# Altium integrated library Analog Devices Clock Generation and Distribution.IntLib: 120 symbols (part 15 of 18)
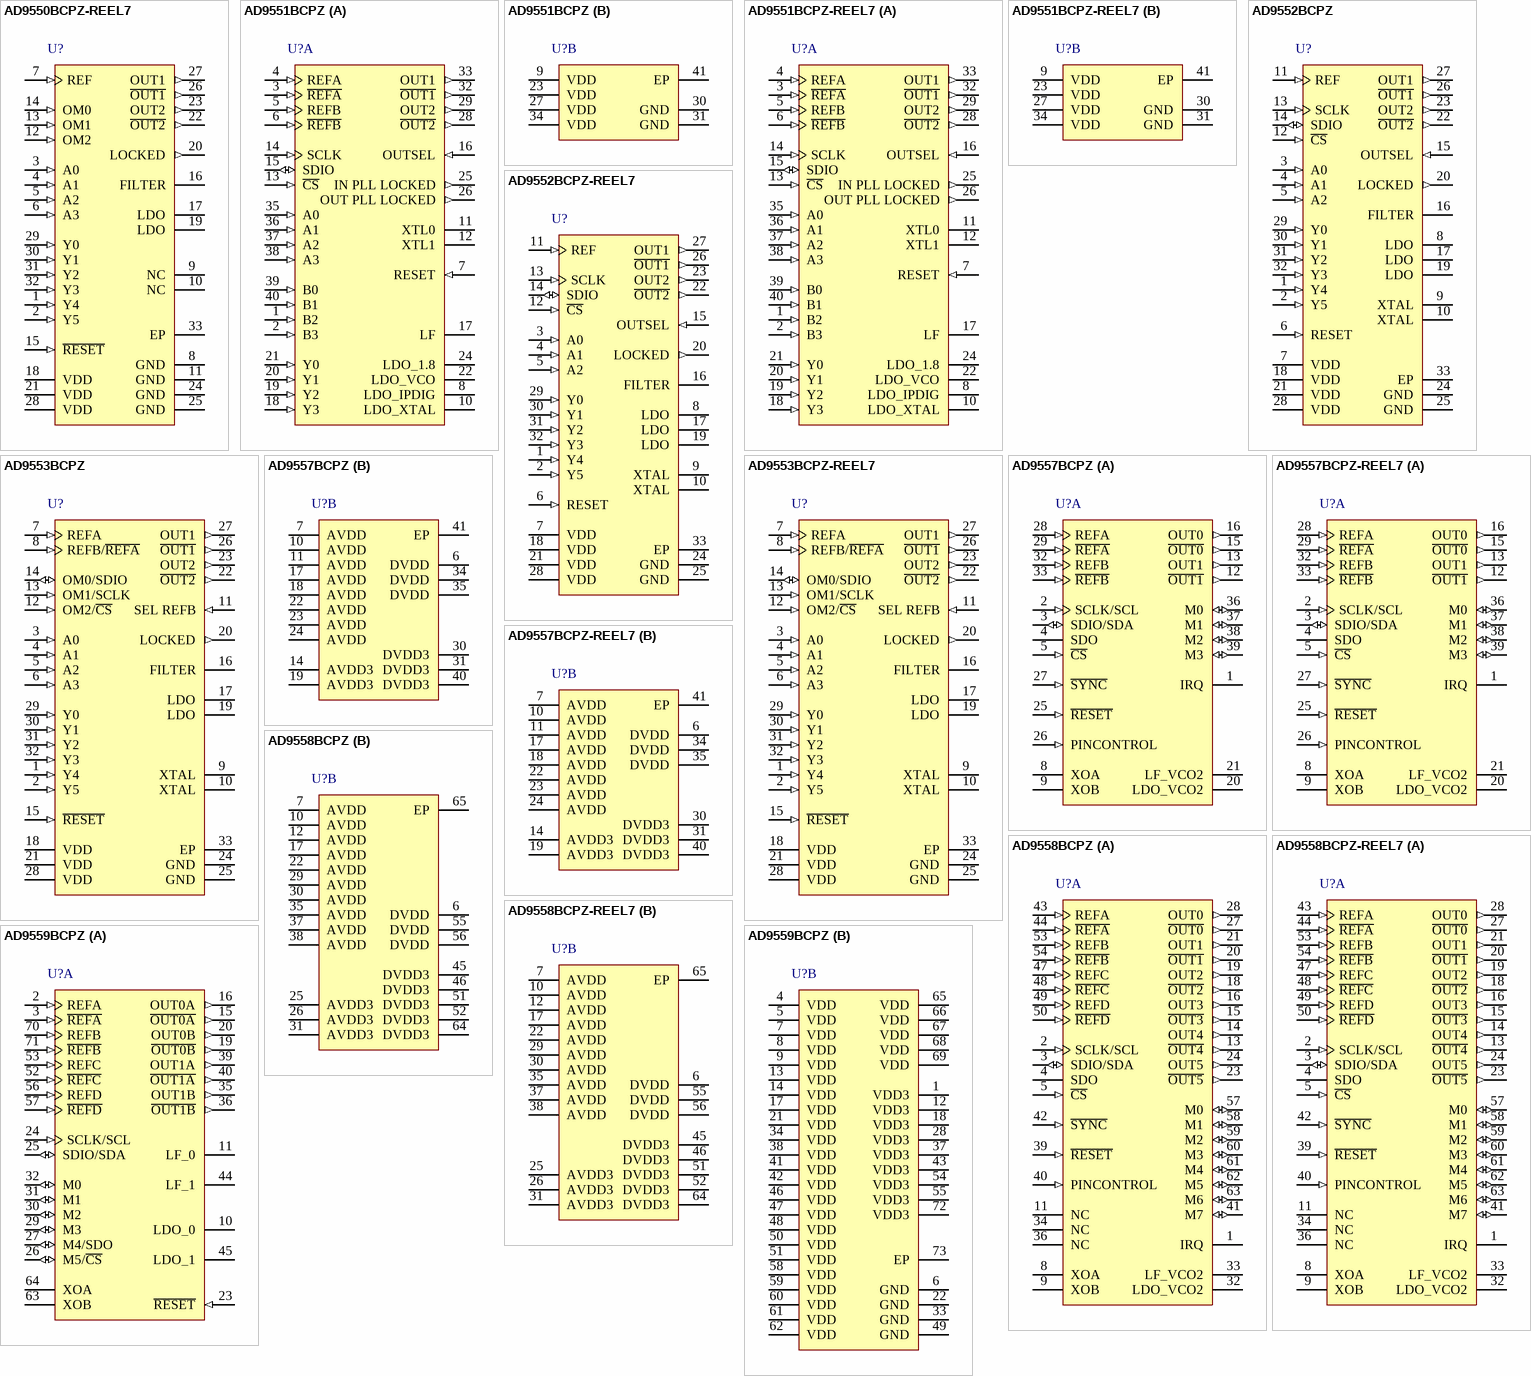
[diagram p26: symbols AD9550BCPZ-REEL7 to AD9559BCPZ]

## AD9558BCPZ
designator U?
Quad-Input Multiservice Line Card Adaptive Clock Translator, 3.3 V Supply, Industrial, 64-pin QFN (CP-64-5), Tray; Manufacturer: Analog Devices; PartNumber: AD9558BCPZ; # of Inputs: 4; # of Outputs: 12; Supply Voltage (V): 3.3; I/O Interface: Serial; Max f-out: 1.25 GHz; Output Logic: CMOS, LVDS, HSTL; DatasheetVersion: Rev. A; PackageVersion: 073108-A, 07/2008; PackageReference: CP-64-5; PackageDescription: 64-Pin Lead Frame Chip Scale Package, Body 9 x 9 mm, Pitch 0.5 mm; Supplier 1: Digi-Key; Supplier Part Number 1: AD9558BCPZ-ND; Supplier 2: Farnell; Supplier Part Number 2: 2065949; Supplier 3: Newark; Supplier Part Number 3: 55T8961; Supplier 4: Mouser; Supplier Part Number 4: 584-AD9558BCPZ; Packing: Tray; Mounting Technology: Surface Mount; Code_JEDEC: MO-220-VMMD-4; ComponentLink1Description: Manufacturer URL; ComponentLink1URL: http://www.analog.com/en/index.html; ComponentLink2Description: Datasheet; ComponentLink2URL: http://www.analog.com/static/imported-files/data_sheets/AD9558.pdf; ComponentLink3Description: Package Specification; ComponentLink3URL: http://www.analog.com/static/imported-files/packages/PKG_PDF/LFCSP%28CP%29/CP_64_5.pdf; ComponentLink4Description: Product URL; ComponentLink4URL: http://www.analog.com/en/clock-and-timing/clock-generation-and-distribution/ad9558/products/product.html
footprint ADI-CP-64-5_N (QFN, 64-Leads, Body 9x9mm, Pitch 0.5mm, Thermal Pad 5.1x5.1mm, IPC Medium Density)
footprint ADI-CP-64-5_L (QFN, 64-Leads, Body 9x9mm, Pitch 0.5mm, Thermal Pad 5.1x5.1mm, IPC High Density)
footprint ADI-CP-64-5_M (QFN, 64-Leads, Body 9x9mm, Pitch 0.5mm, Thermal Pad 5.1x5.1mm, IPC Low Density)
part A pins: 1 IRQ (hiz) "Interrupt Request Line.", 2 SCLK/SCL (in) "Serial Programming Clock (SCLK) in SPI Mode. Data clock for serial programming. Open-Collector Serial Clock Pin (SCL) in I2C Mode. Requires a pull-up resistor, usually 2.2 k ohm; the resistor size depends on the number of (See Datasheet)", 3 SDIO/SDA (io) "Serial Data Input/Output (SDIO) in SPI Mode. When the device is in 4-wire SPI mode, data is written via this pin. In 3-wire SPI mode, both data reads and writes occur on this pin. There is no internal pull-up/pull-down (See Datasheet)", 4 SDO (hiz) "Serial Data Output. Use this pin to read data in 4-wire mode. There is no internal pull-up/ pull-down resistor on this pin. This pin is high impedance in the default 3-wire mode.", 5 ~{CS} (in) "Chip Select (SPI), Active Low. When programming a device, this pin must be held low. In systems where more than one AD9558 is present, this pin enables individual programming of each AD9558. This pin has an internal 10 k ohm (See Datasheet)", 8 XOA "System Clock Input. XOA contains internal dc biasing and should be ac-coupled with a 0.01 uF capacitor, except when using a crystal. If a crystal is used, connect the crystal across XOA and XOB. Single-ended 1.8 V CMOS is (See Datasheet)", 9 XOB "Complementary System Clock Input. Complementary signal to XOA. XOB contains internal dc biasing and should be ac-coupled with a 0.01 uF capacitor, except when using a crystal. If a crystal is used, connect the crystal across (See Datasheet)", 11 NC "No Connection. Do not connect to this pin.", 13 ~{OUT4} (out) "Complementary Output 4. This output can be configured as HSTL, LVDS, or single-ended 1.8 V CMOS", 14 OUT4 (out) "Output 4. This output can be configured as HSTL, LVDS, or single-ended 1.8 V CMOS. LVPECL levels can be achieved by ac coupling and using the Thevenin-equivalent termination as described in the Input/Output Termination (See Datasheet)", 15 ~{OUT3} (out) "Complementary Output 3. This output can be configured as HSTL, LVDS, or single-ended 1.8 V CMOS", 16 OUT3 (out) "Output 3. This output can be configured as HSTL, LVDS, or single-ended 1.8 V CMOS. LVPECL levels can be achieved by ac coupling and using the Thevenin-equivalent termination as described in the Input/Output Termination (See Datasheet)", 18 ~{OUT2} (out) "Complementary Output 2. This output can be configured as HSTL, LVDS, or single-ended 1.8 V CMOS.", 19 OUT2 (out) "Output 2. This output can be HSTL, LVDS, or single-ended 1.8 V CMOS. LVPECL levels can be achieved by ac coupling and using the Thevenin-equivalent termination as described in the Input/Output Termination Recommendations (See Datasheet)", 20 ~{OUT1} (out) "Complementary Output 1. This output can be configured as HSTL, LVDS, or single-ended 1.8 V CMOS.", 21 OUT1 (out) "Output 1. This output can be configured as HSTL, LVDS, or single-ended 1.8 V CMOS. LVPECL levels can be achieved by ac coupling and using the Thevenin-equivalent termination as described in the Input/Output Termination (See Datasheet)", 23 ~{OUT5} (out) "Complementary Output 5. This output can be configured as HSTL, LVDS, or single-ended 1.8 V or 3.3 V CMOS", 24 OUT5 (out) "Output 5. This output can be configured as HSTL, LVDS, or single-ended 1.8 V or 3.3 V CMOS. LVPECL levels can be achieved by ac coupling and by using the Thevenin-equivalent termination as described in the Input/Output (See Datasheet)", 27 ~{OUT0} (out) "Complementary Output 0. This output can be configured as HSTL, LVDS, or single-ended 1.8 V or 3.3 V CMOS.", 28 OUT0 (out) "Output 0. This output can be configured as HSTL, LVDS, or single-ended 1.8 V or 3.3 V CMOS. LVPECL levels can be achieved by ac coupling and by using the Thevenin-equivalent termination as described in the Input/Output (See Datasheet)", 32 LDO_VCO2 "Output PLL Loop Filter Voltage Regulator. Connect a 0.47 uF capacitor from this pin to ground. This pin is also the ac ground reference for the integrated output PLL external loop filter", 33 LF_VCO2 "Loop Filter Node for the Output PLL. Connect an external 6.8 nF capacitor from this pin to Pin 32 (LDO_VCO2).", 34 NC "No Connect. There is no internal connection for this pin.", 36 NC "No Connect. There is no internal connection for this pin.", 39 ~{RESET} (in) "Chip Reset. When this active low pin is asserted, the chip goes into reset. This pin has an internal 50 k ohm pull-up resistor.", 40 PINCONTROL (in) "Pin Program Mode Enable Pin. When pulled high during startup, this pin enables pin programming of the AD9558 configuration during startup. If this pin is low during startup, the user must program the part via the serial (See Datasheet)", 41 M7 (io) "Configurable I/O Pin. Along with pins M6 through M0, this pin is configured through the AD9558 register space", 42 ~{SYNC} (in) "Clock Distribution Synchronization Pin. When this pin is activated, output drivers are held static and then synchronized on a low-to-high transition of this pin. This pin is used to arm the frame sync function when frame (See Datasheet)", 43 REFA (in) "Reference A Input. This internally biased input is typically ac-coupled and, when configured as such, can accept any differential signal with single-ended swing up to 3.3 V. If dc-coupled, input can be LVPECL, LVDS, or (See Datasheet)", 44 ~{REFA} (in) "Complementary Reference A Input. This pin is the complementary input to Pin 43.", 47 REFC (in) "Reference C Input. This internally biased input is typically ac-coupled and, when configured as such, can accept any differential signal with single-ended swing up to 3.3 V. If dc-coupled, input can be LVPECL, LVDS, or (See Datasheet)", 48 ~{REFC} (in) "Complementary Reference C Input. This pin is the complementary input to Pin 47.", 49 REFD (in) "Reference D Input. This internally biased input is typically ac-coupled and, when configured as such, can accept any differential signal with single-ended swing up to 3.3 V. If dc-coupled, input can be LVPECL, LVDS, or (See Datasheet)", 50 ~{REFD} (in) "Complementary Reference D Input. This pin is the complementary input to Pin 49", 53 REFB (in) "Reference B Input. This internally biased input is typically ac-coupled and, when configured as such, can accept any differential signal with single-ended swing up to 3.3 V. If dc-coupled, input can be LVPECL, LVDS, or (See Datasheet)", 54 ~{REFB} (in) "Complementary Reference B Input. This pin is the complementary input to Pin 53.", 57 M0 (io) "Configurable I/O Pins. These pins are configured under program control. The M7 pin (Pin 41) is the last pin of this group.", 58 M1 (io) "Configurable I/O Pins. These pins are configured under program control. The M7 pin (Pin 41) is the last pin of this group.", 59 M2 (io) "Configurable I/O Pins. These pins are configured under program control. The M7 pin (Pin 41) is the last pin of this group.", 60 M3 (io) "Configurable I/O Pins. These pins are configured under program control. The M7 pin (Pin 41) is the last pin of this group.", 61 M4 (io) "Configurable I/O Pins. These pins are configured under program control. The M7 pin (Pin 41) is the last pin of this group.", 62 M5 (io) "Configurable I/O Pins. These pins are configured under program control. The M7 pin (Pin 41) is the last pin of this group.", 63 M6 (io) "Configurable I/O Pins. These pins are configured under program control. The M7 pin (Pin 41) is the last pin of this group."
part B pins: 6 DVDD (power) "1.8 V Digital Supply", 7 AVDD (power) "1.8 V Analog (SYSCLK) Power Supply.", 10 AVDD (power) "1.8 V Analog (VCO) Power Supply.", 12 AVDD (power) "1.8 V Analog (Output Driver) Power Supply.", 17 AVDD (power) "1.8 V Analog (Output Driver) Power Supply.", 22 AVDD (power) "1.8 V Analog (Output Driver) Power Supply.", 25 AVDD3 (power) "3.3 V Analog (Output Driver) Power Supply", 26 AVDD3 (power) "3.3 V Analog (Output Driver) Power Supply", 29 AVDD (power) "1.8 V Analog (Output Driver) Power Supply.", 30 AVDD (power) "1.8 V Analog (Output Driver) Power Supply.", 31 AVDD3 (power) "3.3V Analog (VCO 2) Power Supply.", 35 AVDD (power) "1.8 V Analog (APLL) Power Supply.", 37 AVDD (power) "1.8 V Analog (DCO and TDC) Power Supplies.", 38 AVDD (power) "1.8 V Analog (DCO and TDC) Power Supplies.", 45 DVDD3 (power) "3.3 V Digital (Reference Input) Power Supply.", 46 DVDD3 (power) "3.3 V Digital (Reference Input) Power Supply.", 51 DVDD3 (power) "3.3 V Digital (Reference Input) Power Supply.", 52 DVDD3 (power) "3.3 V Digital (Reference Input) Power Supply.", 55 DVDD (power) "1.8 V Digital Supply", 56 DVDD (power) "1.8 V Digital Supply", 64 DVDD3 (power) "3.3 V Digital Supply.", 65 EP (power) "The exposed pad must be connected to ground (VSS)."

## AD9558BCPZ-REEL7
designator U?
Quad-Input Multiservice Line Card Adaptive Clock Translator, 3.3 V Supply, Industrial, 64-pin QFN (CP-64-5), Reel; Manufacturer: Analog Devices; PartNumber: AD9558BCPZ-REEL7; # of Inputs: 4; # of Outputs: 12; Supply Voltage (V): 3.3; I/O Interface: Serial; Max f-out: 1.25 GHz; Output Logic: CMOS, LVDS, HSTL; DatasheetVersion: Rev. A; PackageVersion: 073108-A, 07/2008; PackageReference: CP-64-5; PackageDescription: 64-Pin Lead Frame Chip Scale Package, Body 9 x 9 mm, Pitch 0.5 mm; Supplier 1: Digi-Key; Supplier Part Number 1: AD9558BCPZ-REEL7-ND; Supplier 2: Mouser; Supplier Part Number 2: 584-AD9558BCPZ-R7; Packing: Reel; Mounting Technology: Surface Mount; Code_JEDEC: MO-220-VMMD-4; ComponentLink1Description: Manufacturer URL; ComponentLink1URL: http://www.analog.com/en/index.html; ComponentLink2Description: Datasheet; ComponentLink2URL: http://www.analog.com/static/imported-files/data_sheets/AD9558.pdf; ComponentLink3Description: Package Specification; ComponentLink3URL: http://www.analog.com/static/imported-files/packages/PKG_PDF/LFCSP%28CP%29/CP_64_5.pdf; ComponentLink4Description: Product URL; ComponentLink4URL: http://www.analog.com/en/clock-and-timing/clock-generation-and-distribution/ad9558/products/product.html
footprint ADI-CP-64-5_N (QFN, 64-Leads, Body 9x9mm, Pitch 0.5mm, Thermal Pad 5.1x5.1mm, IPC Medium Density)
footprint ADI-CP-64-5_L (QFN, 64-Leads, Body 9x9mm, Pitch 0.5mm, Thermal Pad 5.1x5.1mm, IPC High Density)
footprint ADI-CP-64-5_M (QFN, 64-Leads, Body 9x9mm, Pitch 0.5mm, Thermal Pad 5.1x5.1mm, IPC Low Density)
part A pins: 1 IRQ (hiz) "Interrupt Request Line.", 2 SCLK/SCL (in) "Serial Programming Clock (SCLK) in SPI Mode. Data clock for serial programming. Open-Collector Serial Clock Pin (SCL) in I2C Mode. Requires a pull-up resistor, usually 2.2 k ohm; the resistor size depends on the number of (See Datasheet)", 3 SDIO/SDA (io) "Serial Data Input/Output (SDIO) in SPI Mode. When the device is in 4-wire SPI mode, data is written via this pin. In 3-wire SPI mode, both data reads and writes occur on this pin. There is no internal pull-up/pull-down (See Datasheet)", 4 SDO (hiz) "Serial Data Output. Use this pin to read data in 4-wire mode. There is no internal pull-up/ pull-down resistor on this pin. This pin is high impedance in the default 3-wire mode.", 5 ~{CS} (in) "Chip Select (SPI), Active Low. When programming a device, this pin must be held low. In systems where more than one AD9558 is present, this pin enables individual programming of each AD9558. This pin has an internal 10 k ohm (See Datasheet)", 8 XOA "System Clock Input. XOA contains internal dc biasing and should be ac-coupled with a 0.01 uF capacitor, except when using a crystal. If a crystal is used, connect the crystal across XOA and XOB. Single-ended 1.8 V CMOS is (See Datasheet)", 9 XOB "Complementary System Clock Input. Complementary signal to XOA. XOB contains internal dc biasing and should be ac-coupled with a 0.01 uF capacitor, except when using a crystal. If a crystal is used, connect the crystal across (See Datasheet)", 11 NC "No Connection. Do not connect to this pin.", 13 ~{OUT4} (out) "Complementary Output 4. This output can be configured as HSTL, LVDS, or single-ended 1.8 V CMOS", 14 OUT4 (out) "Output 4. This output can be configured as HSTL, LVDS, or single-ended 1.8 V CMOS. LVPECL levels can be achieved by ac coupling and using the Thevenin-equivalent termination as described in the Input/Output Termination (See Datasheet)", 15 ~{OUT3} (out) "Complementary Output 3. This output can be configured as HSTL, LVDS, or single-ended 1.8 V CMOS", 16 OUT3 (out) "Output 3. This output can be configured as HSTL, LVDS, or single-ended 1.8 V CMOS. LVPECL levels can be achieved by ac coupling and using the Thevenin-equivalent termination as described in the Input/Output Termination (See Datasheet)", 18 ~{OUT2} (out) "Complementary Output 2. This output can be configured as HSTL, LVDS, or single-ended 1.8 V CMOS.", 19 OUT2 (out) "Output 2. This output can be HSTL, LVDS, or single-ended 1.8 V CMOS. LVPECL levels can be achieved by ac coupling and using the Thevenin-equivalent termination as described in the Input/Output Termination Recommendations (See Datasheet)", 20 ~{OUT1} (out) "Complementary Output 1. This output can be configured as HSTL, LVDS, or single-ended 1.8 V CMOS.", 21 OUT1 (out) "Output 1. This output can be configured as HSTL, LVDS, or single-ended 1.8 V CMOS. LVPECL levels can be achieved by ac coupling and using the Thevenin-equivalent termination as described in the Input/Output Termination (See Datasheet)", 23 ~{OUT5} (out) "Complementary Output 5. This output can be configured as HSTL, LVDS, or single-ended 1.8 V or 3.3 V CMOS", 24 OUT5 (out) "Output 5. This output can be configured as HSTL, LVDS, or single-ended 1.8 V or 3.3 V CMOS. LVPECL levels can be achieved by ac coupling and by using the Thevenin-equivalent termination as described in the Input/Output (See Datasheet)", 27 ~{OUT0} (out) "Complementary Output 0. This output can be configured as HSTL, LVDS, or single-ended 1.8 V or 3.3 V CMOS.", 28 OUT0 (out) "Output 0. This output can be configured as HSTL, LVDS, or single-ended 1.8 V or 3.3 V CMOS. LVPECL levels can be achieved by ac coupling and by using the Thevenin-equivalent termination as described in the Input/Output (See Datasheet)", 32 LDO_VCO2 "Output PLL Loop Filter Voltage Regulator. Connect a 0.47 uF capacitor from this pin to ground. This pin is also the ac ground reference for the integrated output PLL external loop filter", 33 LF_VCO2 "Loop Filter Node for the Output PLL. Connect an external 6.8 nF capacitor from this pin to Pin 32 (LDO_VCO2).", 34 NC "No Connect. There is no internal connection for this pin.", 36 NC "No Connect. There is no internal connection for this pin.", 39 ~{RESET} (in) "Chip Reset. When this active low pin is asserted, the chip goes into reset. This pin has an internal 50 k ohm pull-up resistor.", 40 PINCONTROL (in) "Pin Program Mode Enable Pin. When pulled high during startup, this pin enables pin programming of the AD9558 configuration during startup. If this pin is low during startup, the user must program the part via the serial (See Datasheet)", 41 M7 (io) "Configurable I/O Pin. Along with pins M6 through M0, this pin is configured through the AD9558 register space", 42 ~{SYNC} (in) "Clock Distribution Synchronization Pin. When this pin is activated, output drivers are held static and then synchronized on a low-to-high transition of this pin. This pin is used to arm the frame sync function when frame (See Datasheet)", 43 REFA (in) "Reference A Input. This internally biased input is typically ac-coupled and, when configured as such, can accept any differential signal with single-ended swing up to 3.3 V. If dc-coupled, input can be LVPECL, LVDS, or (See Datasheet)", 44 ~{REFA} (in) "Complementary Reference A Input. This pin is the complementary input to Pin 43.", 47 REFC (in) "Reference C Input. This internally biased input is typically ac-coupled and, when configured as such, can accept any differential signal with single-ended swing up to 3.3 V. If dc-coupled, input can be LVPECL, LVDS, or (See Datasheet)", 48 ~{REFC} (in) "Complementary Reference C Input. This pin is the complementary input to Pin 47.", 49 REFD (in) "Reference D Input. This internally biased input is typically ac-coupled and, when configured as such, can accept any differential signal with single-ended swing up to 3.3 V. If dc-coupled, input can be LVPECL, LVDS, or (See Datasheet)", 50 ~{REFD} (in) "Complementary Reference D Input. This pin is the complementary input to Pin 49", 53 REFB (in) "Reference B Input. This internally biased input is typically ac-coupled and, when configured as such, can accept any differential signal with single-ended swing up to 3.3 V. If dc-coupled, input can be LVPECL, LVDS, or (See Datasheet)", 54 ~{REFB} (in) "Complementary Reference B Input. This pin is the complementary input to Pin 53.", 57 M0 (io) "Configurable I/O Pins. These pins are configured under program control. The M7 pin (Pin 41) is the last pin of this group.", 58 M1 (io) "Configurable I/O Pins. These pins are configured under program control. The M7 pin (Pin 41) is the last pin of this group.", 59 M2 (io) "Configurable I/O Pins. These pins are configured under program control. The M7 pin (Pin 41) is the last pin of this group.", 60 M3 (io) "Configurable I/O Pins. These pins are configured under program control. The M7 pin (Pin 41) is the last pin of this group.", 61 M4 (io) "Configurable I/O Pins. These pins are configured under program control. The M7 pin (Pin 41) is the last pin of this group.", 62 M5 (io) "Configurable I/O Pins. These pins are configured under program control. The M7 pin (Pin 41) is the last pin of this group.", 63 M6 (io) "Configurable I/O Pins. These pins are configured under program control. The M7 pin (Pin 41) is the last pin of this group."
part B pins: 6 DVDD (power) "1.8 V Digital Supply", 7 AVDD (power) "1.8 V Analog (SYSCLK) Power Supply.", 10 AVDD (power) "1.8 V Analog (VCO) Power Supply.", 12 AVDD (power) "1.8 V Analog (Output Driver) Power Supply.", 17 AVDD (power) "1.8 V Analog (Output Driver) Power Supply.", 22 AVDD (power) "1.8 V Analog (Output Driver) Power Supply.", 25 AVDD3 (power) "3.3 V Analog (Output Driver) Power Supply", 26 AVDD3 (power) "3.3 V Analog (Output Driver) Power Supply", 29 AVDD (power) "1.8 V Analog (Output Driver) Power Supply.", 30 AVDD (power) "1.8 V Analog (Output Driver) Power Supply.", 31 AVDD3 (power) "3.3V Analog (VCO 2) Power Supply.", 35 AVDD (power) "1.8 V Analog (APLL) Power Supply.", 37 AVDD (power) "1.8 V Analog (DCO and TDC) Power Supplies.", 38 AVDD (power) "1.8 V Analog (DCO and TDC) Power Supplies.", 45 DVDD3 (power) "3.3 V Digital (Reference Input) Power Supply.", 46 DVDD3 (power) "3.3 V Digital (Reference Input) Power Supply.", 51 DVDD3 (power) "3.3 V Digital (Reference Input) Power Supply.", 52 DVDD3 (power) "3.3 V Digital (Reference Input) Power Supply.", 55 DVDD (power) "1.8 V Digital Supply", 56 DVDD (power) "1.8 V Digital Supply", 64 DVDD3 (power) "3.3 V Digital Supply.", 65 EP (power) "The exposed pad must be connected to ground (VSS)."

## AD9559BCPZ
designator U?
Dual PLL, Quad Input, Multiservice Line Card Adaptive Clock Translator, 3.3 V Supply, Industrial, 72-pin QFN (CP-72-4), Tray; Manufacturer: Analog Devices; PartNumber: AD9559BCPZ; # of Inputs: 4; # of Outputs: 8; Supply Voltage (V): 3.3; I/O Interface: Serial; Max f-out: 1.25 GHz; Output Logic: CMOS, LVDS, HSTL; DatasheetVersion: Rev. A; PackageVersion: 06-25-2012-A, 06/2012; PackageReference: CP-72-4; PackageDescription: 72-Pin Lead Frame Chip Scale Package, Body 10 x 10 mm, Pitch 0.5 mm; Supplier 1: Digi-Key; Supplier Part Number 1: AD9559BCPZ-ND; Supplier 2: Farnell; Supplier Part Number 2: 2213531; Supplier 3: Newark; Supplier Part Number 3: 43W5569; Supplier 4: Newark; Supplier Part Number 4: 46W1578; Supplier 5: Mouser; Supplier Part Number 5: 584-AD9559BCPZ; Packing: Tray; Mounting Technology: Surface Mount; Code_JEDEC: MO-220-VNND-4; ComponentLink1Description: Manufacturer URL; ComponentLink1URL: http://www.analog.com/en/index.html; ComponentLink2Description: Datasheet; ComponentLink2URL: http://www.analog.com/static/imported-files/data_sheets/AD9559.pdf; ComponentLink3Description: Package Specification; ComponentLink3URL: http://www.analog.com/static/imported-files/packages/PKG_PDF/LFCSP(CP)/CP_72_4.pdf; ComponentLink4Description: Product URL; ComponentLink4URL: http://www.analog.com/en/clock-and-timing/clock-generation-and-distribution/ad9559/products/product.html
footprint ADI-CP-72-4_N (QFN, 72-Leads, Body 10x10mm, Pitch 0.5mm, Thermal Pad 7.1x7.1mm, IPC Medium Density)
footprint ADI-CP-72-4_L (QFN, 72-Leads, Body 10x10mm, Pitch 0.5mm, Thermal Pad 7.1x7.1mm, IPC High Density)
footprint ADI-CP-72-4_M (QFN, 72-Leads, Body 10x10mm, Pitch 0.5mm, Thermal Pad 7.1x7.1mm, IPC Low Density)
part A pins: 2 REFA (in) "Reference A Input. This internally biased input is typically ac-coupled; when configured in this manner, it can accept any differential signal with single-ended swing up to 3.3 V. If dc-coupled, input can be LVPECL, LVDS, or (See Datasheet)", 3 ~{REFA} (in) "Complementary Reference A Input. Complementary signal to the input provided on Pin 2.", 10 LDO_0 "Output PLL0 Loop Filter Voltage Regulator. Connect a 0.47 uF capacitor from this pin to ground. This pin is also the ac ground reference for the integrated output PLL external loop filter.", 11 LF_0 "Loop Filter Node for the Output PLL0. Connect an external 6.8 nF capacitor from this pin to Pin 10 (LDO_0).", 15 ~{OUT0A} (out) "PLL0 Complementary Output 0A. This output can be configured as HSTL, LVDS, or single-ended 1.8 V CMOS.", 16 OUT0A (out) "PLL0 Output 0A. This output can be configured as HSTL, LVDS, or single-ended 1.8 V CMOS. LVPECL levels can be achieved by ac-coupling and using the Thevenin-equivalent termination as described in the Input/Output Termination (See Datasheet)", 19 ~{OUT0B} (out) "PLL0 Complementary Output 0B. This output can be configured as HSTL, LVDS, or single-ended 1.8 V or 3.3 V CMOS.", 20 OUT0B (out) "PLL0 Output 0B. This output can be configured as HSTL, LVDS, or single-ended 1.8 V or 3.3 V CMOS. LVPECL levels can be achieved by ac-coupling and using the Thevenin-equivalent termination as described in the Input/Output (See Datasheet)", 23 ~{RESET} (in) "Chip Reset. When this active low pin is asserted, the chip goes into reset. This pin has an internal 50 k ohm pull-up resistor.", 24 SCLK/SCL (in) "Serial Programming Clock in SPI Mode (SCLK). Data clock for serial programming. Serial Clock Pin in I2C Mode (SCL).", 25 SDIO/SDA (io) "Serial Data Input/Output (SDIO). When the device is in 4-wire SPI mode, data is written via this pin. In 3-wire SPI mode, data reads and writes both occur on this pin. There is no internal pull-up/pull-down resistor on this (See Datasheet)", 26 M5/~{CS} (io) "Configurable I/O Pin (M5). Used for status and control of the AD9559. Chip Select in SPI Mode (CS). Active low input. When programming a device in SPI, this pin must be held low. In systems where more than one AD9559 is (See Datasheet)", 27 M4/SDO (io) "Configurable I/O Pin (M4). Used for status and control of the AD9559. Serial Data Output (SDO). In 4-wire SPI mode, this pin is used for reading serial data.", 29 M3 (io) "Configurable I/O Pins. These pins are used for status and control of the AD9559.These pins are also used at power-up and reset to control the serial port configuration and EEPROM loading. See Table 23 and Table 25 for more (See Datasheet)", 30 M2 (io) "Configurable I/O Pins. These pins are used for status and control of the AD9559.These pins are also used at power-up and reset to control the serial port configuration and EEPROM loading. See Table 23 and Table 25 for more (See Datasheet)", 31 M1 (io) "Configurable I/O Pins. These pins are used for status and control of the AD9559.These pins are also used at power-up and reset to control the serial port configuration and EEPROM loading. See Table 23 and Table 25 for more (See Datasheet)", 32 M0 (io) "Configurable I/O Pins. These pins are used for status and control of the AD9559.These pins are also used at power-up and reset to control the serial port configuration and EEPROM loading. See Table 23 and Table 25 for more (See Datasheet)", 35 OUT1B (out) "PLL1 Output 1B. This output can be configured as HSTL, LVDS, or single-ended 1.8 V or 3.3 V CMOS. LVPECL levels can be achieved by ac-coupling and using the Thevenin-equivalent termination as described in the Input/Output (See Datasheet)", 36 ~{OUT1B} (out) "PLL1 Complementary Output 1B. This output can be configured as HSTL, LVDS, or single-ended 1.8 V or 3.3 V CMOS.", 39 OUT1A (out) "PLL1 Output 1A. This output can be configured as HSTL, LVDS, or single-ended 1.8 V CMOS. LVPECL levels can be achieved by ac-coupling and using the Thevenin-equivalent termination as described in the Input/Output Termination (See Datasheet)", 40 ~{OUT1A} (out) "PLL1 Complementary Output 1A. This output can be configured as HSTL, LVDS, or single-ended 1.8 V CMOS.", 44 LF_1 "Loop Filter Node for the Output PLL1. Connect an external 6.8 nF capacitor from this pin to Pin 45 (LDO_1).", 45 LDO_1 "Output PLL1 Loop Filter Voltage Regulator. Connect a 0.47 uF capacitor from this pin to ground. This pin is also the ac ground reference for the integrated output PLL external loop filter.", 52 ~{REFC} (in) "Complementary Reference C Input. Complementary signal to the input provided on Pin 53.", 53 REFC (in) "Reference C Input. This internally biased input is typically ac-coupled; when configured in that manner, it can accept any differential signal with single-ended swing up to 3.3 V. If dc-coupled, input can be LVPECL, LVDS, or (See Datasheet)", 56 REFD (in) "Complementary Reference D Input. Complementary signal to the input provided on Pin 57.", 57 ~{REFD} (in) "Reference D Input. This internally biased input is typically ac-coupled; when configured in this manner, it can accept any differential signal with single-ended swing up to 3.3 V. If dc-coupled, input can be LVPECL, LVDS, or (See Datasheet)", 63 XOB "Complementary System Clock Input. Complementary signal to XOA. XOB contains internal dc biasing and should be ac-coupled with a 0.1 uF capacitor except when using a crystal. When a crystal is used, connect the crystal across (See Datasheet)", 64 XOA "System Clock Input. XOA contains internal dc biasing and should be ac-coupled with a 0.01 uF capacitor except when using a crystal. When a crystal is used, connect the crystal across XOA and XOB. Single-ended 1.8 V CMOS is (See Datasheet)", 70 REFB (in) "Reference B Input. This internally biased input is typically ac-coupled; when configured in this manner, it can accept any differential signal with single-ended swing up to 3.3 V. If dc-coupled, input can be LVPECL, LVDS, or (See Datasheet)", 71 ~{REFB} (in) "Complementary Reference B Input. Complementary signal to the input provided on Pin 70."
part B pins: 1 VDD3 (power) "3.3 V Power Supply. See the Power Supply Partitions section for information about the recommended grouping of the power supply pins.", 4 VDD (power) "1.8 V Power Supply. See the Power Supply Partitions section for information about the recommended grouping of the power supply pins. Note that, for Pin 34 and Pin 21, it is recommended that a Size 0201, 0.1 uF bypass (See Datasheet)", 5 VDD (power) "1.8 V Power Supply. See the Power Supply Partitions section for information about the recommended grouping of the power supply pins. Note that, for Pin 34 and Pin 21, it is recommended that a Size 0201, 0.1 uF bypass (See Datasheet)", 6 GND (power) "Connect these pins (along with the exposed die pad) to ground.", 7 VDD (power) "1.8 V Power Supply. See the Power Supply Partitions section for information about the recommended grouping of the power supply pins. Note that, for Pin 34 and Pin 21, it is recommended that a Size 0201, 0.1 uF bypass (See Datasheet)", 8 VDD (power) "1.8 V Power Supply. See the Power Supply Partitions section for information about the recommended grouping of the power supply pins. Note that, for Pin 34 and Pin 21, it is recommended that a Size 0201, 0.1 uF bypass (See Datasheet)", 9 VDD (power) "1.8 V Power Supply. See the Power Supply Partitions section for information about the recommended grouping of the power supply pins. Note that, for Pin 34 and Pin 21, it is recommended that a Size 0201, 0.1 uF bypass (See Datasheet)", 12 VDD3 (power) "3.3 V Power Supply. See the Power Supply Partitions section for information about the recommended grouping of the power supply pins.", 13 VDD (power) "1.8 V Power Supply. See the Power Supply Partitions section for information about the recommended grouping of the power supply pins. Note that, for Pin 34 and Pin 21, it is recommended that a Size 0201, 0.1 uF bypass (See Datasheet)", 14 VDD (power) "1.8 V Power Supply. See the Power Supply Partitions section for information about the recommended grouping of the power supply pins. Note that, for Pin 34 and Pin 21, it is recommended that a Size 0201, 0.1 uF bypass (See Datasheet)", 17 VDD (power) "1.8 V Power Supply. See the Power Supply Partitions section for information about the recommended grouping of the power supply pins. Note that, for Pin 34 and Pin 21, it is recommended that a Size 0201, 0.1 uF bypass (See Datasheet)", 18 VDD3 (power) "3.3 V Power Supply. See the Power Supply Partitions section for information about the recommended grouping of the power supply pins.", 21 VDD (power) "1.8 V Power Supply. See the Power Supply Partitions section for information about the recommended grouping of the power supply pins. Note that, for Pin 34 and Pin 21, it is recommended that a Size 0201, 0.1 uF bypass (See Datasheet)", 22 GND (power) "Connect these pins (along with the exposed die pad) to ground.", 28 VDD3 (power) "3.3 V Power Supply. See the Power Supply Partitions section for information about the recommended grouping of the power supply pins.", 33 GND (power) "Connect these pins (along with the exposed die pad) to ground.", 34 VDD (power) "1.8 V Power Supply. See the Power Supply Partitions section for information about the recommended grouping of the power supply pins. Note that, for Pin 34 and Pin 21, it is recommended that a Size 0201, 0.1 uF bypass (See Datasheet)", 37 VDD3 (power) "3.3 V Power Supply. See the Power Supply Partitions section for information about the recommended grouping of the power supply pins.", 38 VDD (power) "1.8 V Power Supply. See the Power Supply Partitions section for information about the recommended grouping of the power supply pins. Note that, for Pin 34 and Pin 21, it is recommended that a Size 0201, 0.1 uF bypass (See Datasheet)", 41 VDD (power) "1.8 V Power Supply. See the Power Supply Partitions section for information about the recommended grouping of the power supply pins. Note that, for Pin 34 and Pin 21, it is recommended that a Size 0201, 0.1 uF bypass (See Datasheet)", 42 VDD (power) "1.8 V Power Supply. See the Power Supply Partitions section for information about the recommended grouping of the power supply pins. Note that, for Pin 34 and Pin 21, it is recommended that a Size 0201, 0.1 uF bypass (See Datasheet)", 43 VDD3 (power) "3.3 V Power Supply. See the Power Supply Partitions section for information about the recommended grouping of the power supply pins.", 46 VDD (power) "1.8 V Power Supply. See the Power Supply Partitions section for information about the recommended grouping of the power supply pins. Note that, for Pin 34 and Pin 21, it is recommended that a Size 0201, 0.1 uF bypass (See Datasheet)", 47 VDD (power) "1.8 V Power Supply. See the Power Supply Partitions section for information about the recommended grouping of the power supply pins. Note that, for Pin 34 and Pin 21, it is recommended that a Size 0201, 0.1 uF bypass (See Datasheet)", 48 VDD (power) "1.8 V Power Supply. See the Power Supply Partitions section for information about the recommended grouping of the power supply pins. Note that, for Pin 34 and Pin 21, it is recommended that a Size 0201, 0.1 uF bypass (See Datasheet)", 49 GND (power) "Connect these pins (along with the exposed die pad) to ground.", 50 VDD (power) "1.8 V Power Supply. See the Power Supply Partitions section for information about the recommended grouping of the power supply pins. Note that, for Pin 34 and Pin 21, it is recommended that a Size 0201, 0.1 uF bypass (See Datasheet)", 51 VDD (power) "1.8 V Power Supply. See the Power Supply Partitions section for information about the recommended grouping of the power supply pins. Note that, for Pin 34 and Pin 21, it is recommended that a Size 0201, 0.1 uF bypass (See Datasheet)", 54 VDD3 (power) "3.3 V Power Supply. See the Power Supply Partitions section for information about the recommended grouping of the power supply pins.", 55 VDD3 (power) "3.3 V Power Supply. See the Power Supply Partitions section for information about the recommended grouping of the power supply pins.", 58 VDD (power) "1.8 V Power Supply. See the Power Supply Partitions section for information about the recommended grouping of the power supply pins. Note that, for Pin 34 and Pin 21, it is recommended that a Size 0201, 0.1 uF bypass (See Datasheet)", 59 VDD (power) "1.8 V Power Supply. See the Power Supply Partitions section for information about the recommended grouping of the power supply pins. Note that, for Pin 34 and Pin 21, it is recommended that a Size 0201, 0.1 uF bypass (See Datasheet)", 60 VDD (power) "1.8 V Power Supply. See the Power Supply Partitions section for information about the recommended grouping of the power supply pins. Note that, for Pin 34 and Pin 21, it is recommended that a Size 0201, 0.1 uF bypass (See Datasheet)", 61 VDD (power) "1.8 V Power Supply. See the Power Supply Partitions section for information about the recommended grouping of the power supply pins. Note that, for Pin 34 and Pin 21, it is recommended that a Size 0201, 0.1 uF bypass (See Datasheet)", 62 VDD (power) "1.8 V Power Supply. See the Power Supply Partitions section for information about the recommended grouping of the power supply pins. Note that, for Pin 34 and Pin 21, it is recommended that a Size 0201, 0.1 uF bypass (See Datasheet)", 65 VDD (power) "1.8 V Power Supply. See the Power Supply Partitions section for information about the recommended grouping of the power supply pins. Note that, for Pin 34 and Pin 21, it is recommended that a Size 0201, 0.1 uF bypass (See Datasheet)", 66 VDD (power) "1.8 V Power Supply. See the Power Supply Partitions section for information about the recommended grouping of the power supply pins. Note that, for Pin 34 and Pin 21, it is recommended that a Size 0201, 0.1 uF bypass (See Datasheet)", 67 VDD (power) "1.8 V Power Supply. See the Power Supply Partitions section for information about the recommended grouping of the power supply pins. Note that, for Pin 34 and Pin 21, it is recommended that a Size 0201, 0.1 uF bypass (See Datasheet)", 68 VDD (power) "1.8 V Power Supply. See the Power Supply Partitions section for information about the recommended grouping of the power supply pins. Note that, for Pin 34 and Pin 21, it is recommended that a Size 0201, 0.1 uF bypass (See Datasheet)", 69 VDD (power) "1.8 V Power Supply. See the Power Supply Partitions section for information about the recommended grouping of the power supply pins. Note that, for Pin 34 and Pin 21, it is recommended that a Size 0201, 0.1 uF bypass (See Datasheet)", 72 VDD3 (power) "3.3 V Power Supply. See the Power Supply Partitions section for information about the recommended grouping of the power supply pins.", 73 EP (power) "The exposed pad is the ground connection on the chip. It must be soldered to the analog ground of the PCB to ensure proper functionality and heat dissipation, noise, and mechanical strength benefits."

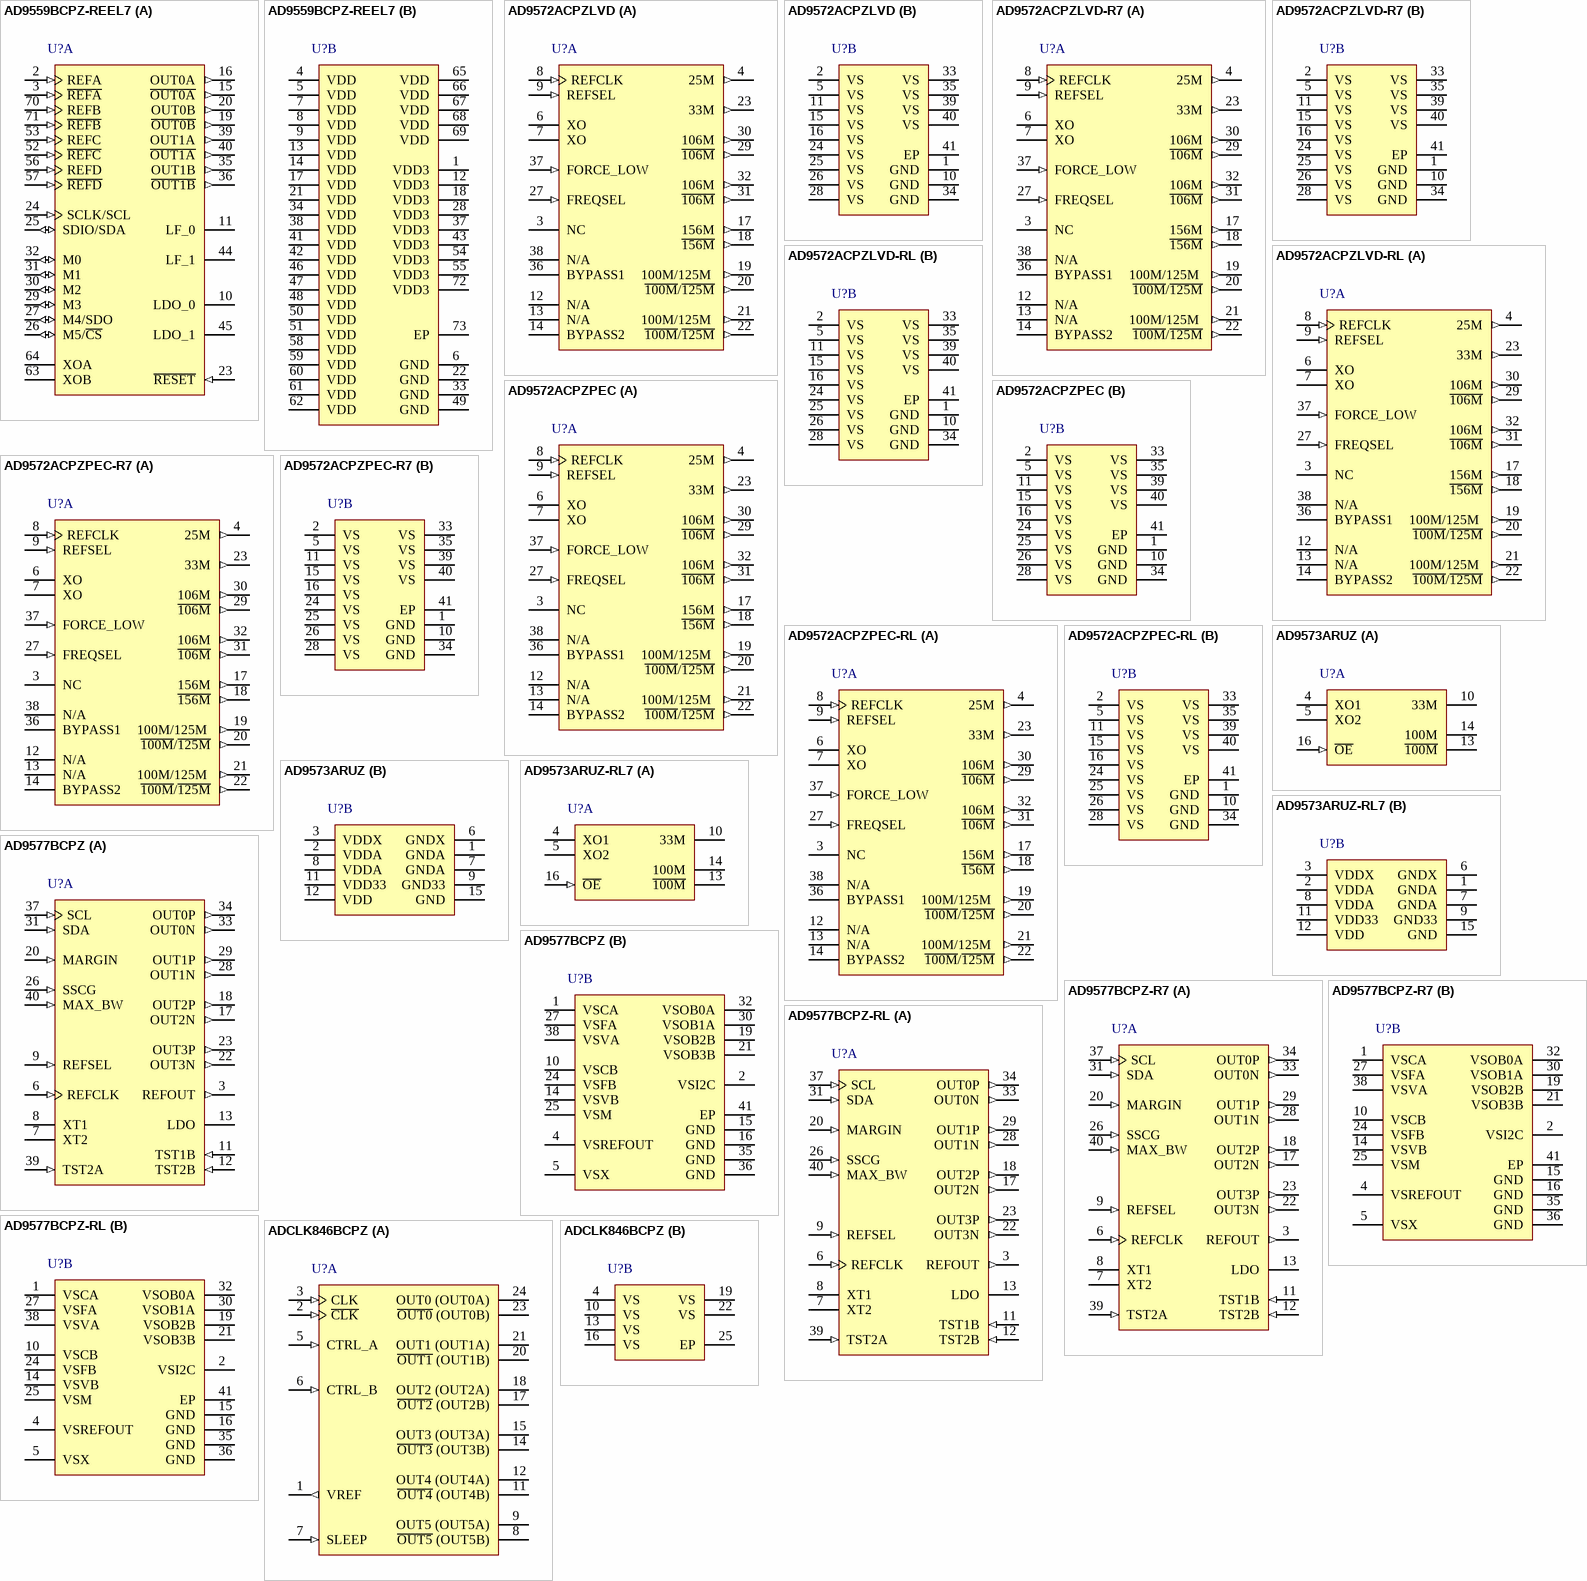
[diagram p10: symbols AD9559BCPZ-REEL7 to ADCLK846BCPZ]